# Altium schematic symbol library Cree_LED.SchLib: 1 symbol
Pins are listed as number, name and electrical type; pins without a type are passive.

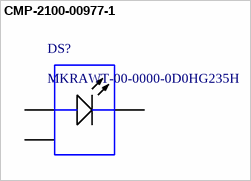
[diagram p0: symbol CMP-2100-00977-1]

## CMP-2100-00977-1
designator DS?, comment MKRAWT-00-0000-0D0HG235H
LED, White, 12 V, 2-Pin SMD, RoHS, Tape and Reel
footprint CREE-MK-R-2_V (SMD, 2-Leads, Body 7x7mm, Thermal Pad 3.9x6.76mm)
pins: 1 A, 2 K, 3 EP